# Altium integrated library TI Power Management Battery Management.IntLib: 949 symbols (part 18 of 62)
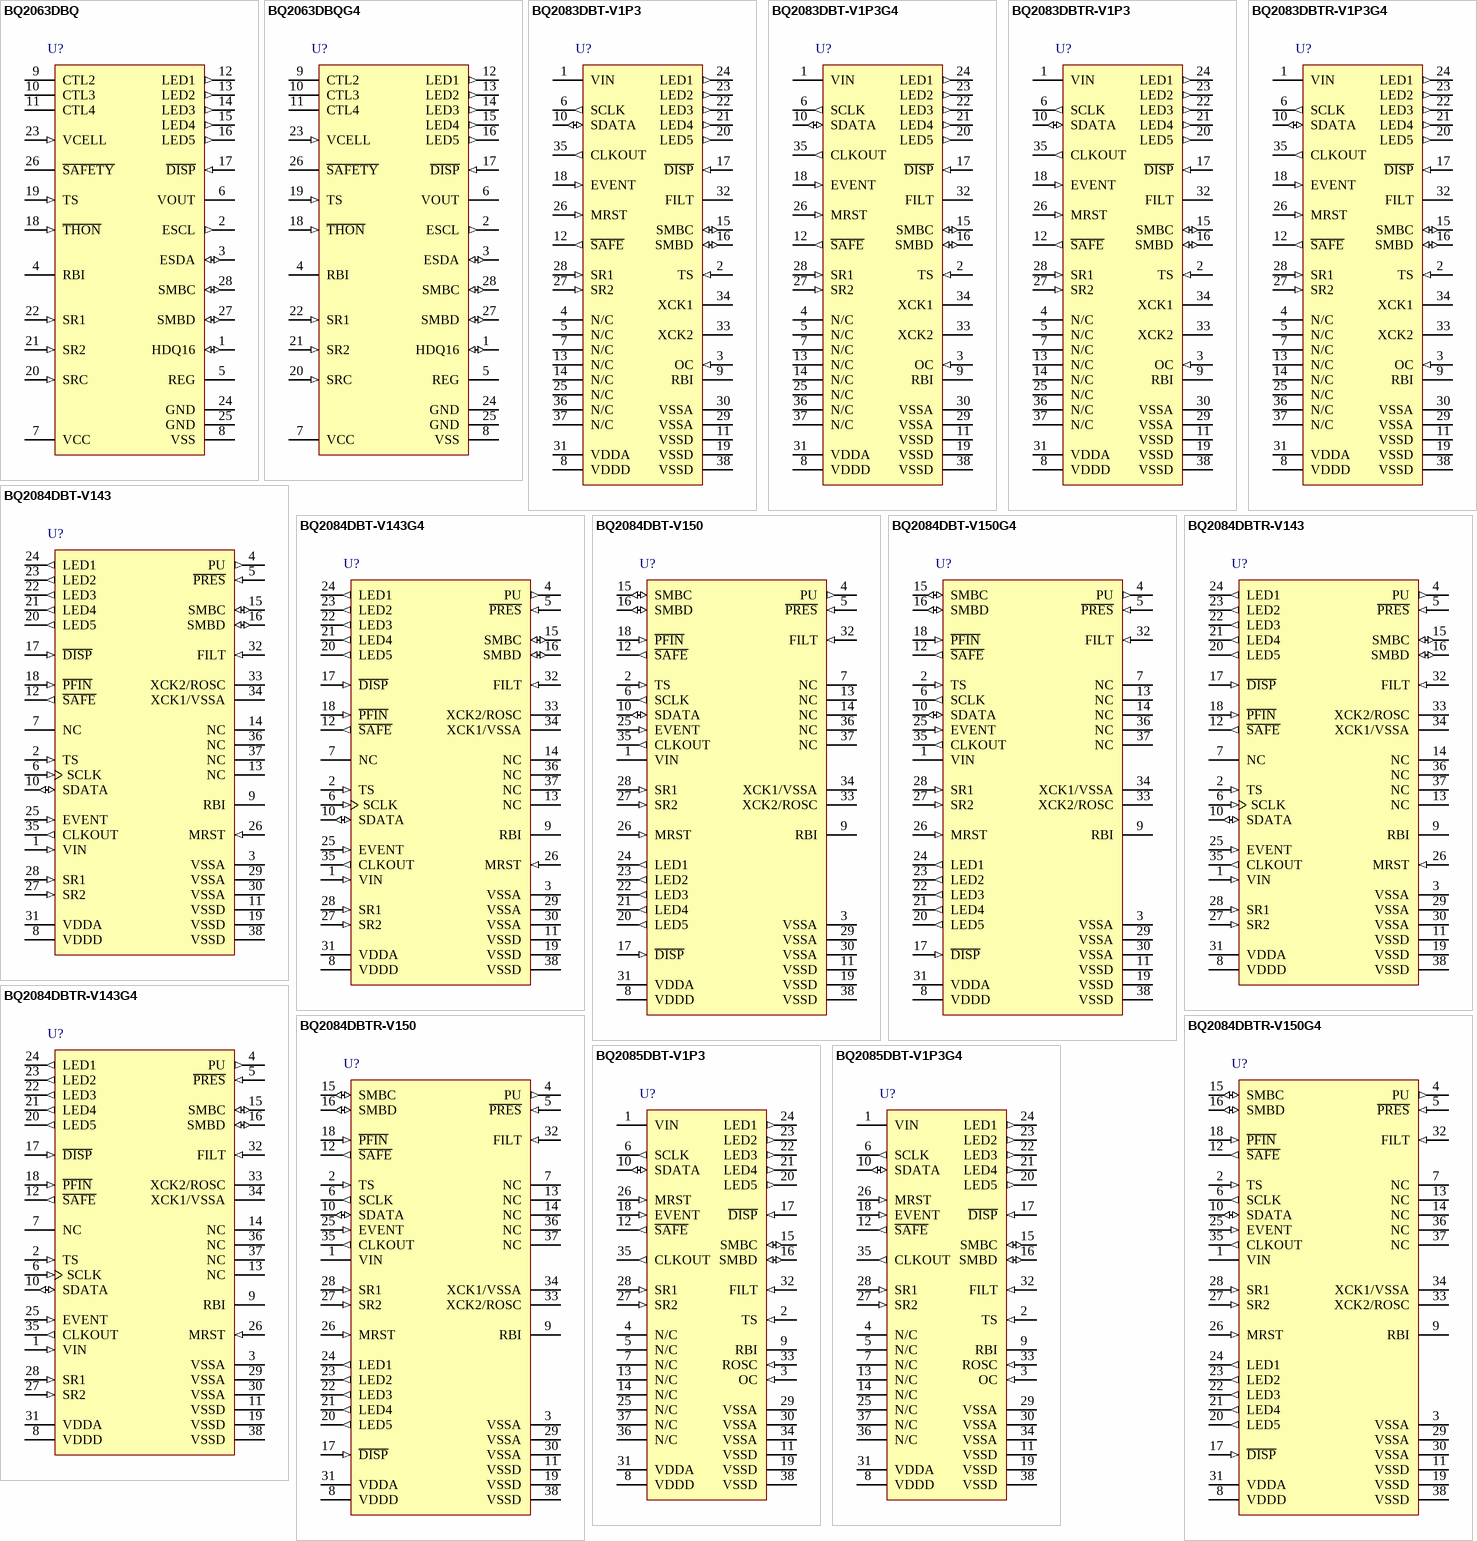
[diagram p51: symbols BQ2063DBQ to BQ2085DBT-V1P3G4]

## BQ2084DBT-V150G4
designator U?
SBS v1.1 Compliant Gas Gauge with LED Delay, -20 to 85 degC, 38-pin TSSOP (DBT), Green (RoHS & no Sb/Br); PartNumber: BQ2084DBT-V150G4; Manufacturer: Texas Instruments; Lead Acid: N; Li-Ion: Y; SubFamily: Battery Fuel Gauge; DatasheetVersion: SLUS758; PackageVersion: revI, Mar-2011; PackageReference: DBT38; PackageDescription: 38-Pin Plastic Small Outline 0.5 mm Pitch; Supplier 1: Digi-Key; Supplier Part Number 1: BQ2084DBT-V150G4-ND; Supplier 2: Newark; Supplier Part Number 2: 34P3340; Supplier 3: Mouser; Supplier Part Number 3: 595-BQ2084DBT-V150G4; Eco-Plan: Green (RoHS & no Sb/Br); Li-Polymer: Y; NiCd: N; NiMH: N; Over Voltage Protection: N; Mounting Technology: Surface Mount; Code_JEDEC: MO-153; ComponentLink1Description: Datasheet; ComponentLink1URL: http://www.ti.com/general/docs/lit/getliterature.tsp?genericPartNumber=BQ2084-V150&fileType=pdf
footprint DBT38_N (TSSOP, 38-Leads, Body 9.7x4.4mm, Pitch 0.5mm, IPC Medium Density)
footprint DBT38_L (TSSOP, 38-Leads, Body 9.7x4.4mm, Pitch 0.5mm, IPC High Density)
footprint DBT38_M (TSSOP, 38-Leads, Body 9.7x4.4mm, Pitch 0.5mm, IPC Low Density)
pins: 1 VIN (power) "Single-cell voltage input from the bq29312A", 2 TS (in) "Thermistor voltage input connection to monitor temperature", 3 VSSA (power) "Negative supply for analog circuitry", 4 PU (out) "Output to pull up the PRES pin for detection", 5 ~{PRES} (in) "Active low input to sense system insertion", 6 SCLK (out) "Communication clock to the bq29312A", 7 NC "No connection", 8 VDDD (power) "Positive supply for digital circuitry and I/O pins", 9 RBI (power) "Register backup that provides backup potential to the bq2084-V150 data registers during periods of low operating voltage. RBI accepts a storage capacitor or a battery input.", 10 SDATA (io) "Data transfer to and from bq29312A", 11 VSSD (power) "Negative supply for digital circuitry", 12 ~{SAFE} (out) "Active low output for additional level of safety protection; e.g., fuse blow.", 13 NC "No connection", 14 NC "No connection", 15 SMBC (io) "SMBus clock open-drain bidirectional pin used to clock the data transfer to and from the bq2084-V150", 16 SMBD (io) "SMBus clock open-drain bidirectional pin used to transfer address and data to and from the bq2084-V150", 17 ~{DISP} (in) "Display control for the LED drivers LED1 through LED5", 18 ~{PFIN} (in) "Active low input to detect secondary protector output status", 19 VSSD (power) "Negative supply for digital circuitry", 20 LED5 (out) "LED display segments that each may drive an external LED", 21 LED4 (out) "LED display segments that each may drive an external LED", 22 LED3 (out) "LED display segments that each may drive an external LED", 23 LED2 (out) "LED display segments that each may drive an external LED", 24 LED1 (out) "LED display segments that each may drive an external LED", 25 EVENT (in) "Input from bq29312A XALERT output", 26 MRST (in) "Master reset input that forces the device into reset when held high", 27 SR2 (in) "Connections for a small-value sense resistor to monitor the battery charge- and discharge-current flow", 28 SR1 (in) "Connections for a small-value sense resistor to monitor the battery charge- and discharge-current flow", 29 VSSA (power) "Negative supply for analog circuitry", 30 VSSA (power) "Negative supply for analog circuitry", 31 VDDA (power) "Positive supply for analog circuitry", 32 FILT (in) "Analog input connected to the external PLL filter", 33 XCK2/ROSC "32.768-kHz crystal oscillator input pin or connected to a 100-kohm, 50 ppm or better resistor if the internal oscillator is used", 34 XCK1/VSSA "32.768-kHz crystal oscillator input pin or connected to VSSA if the internal oscillator is used", 35 CLKOUT (out) "32.768-kHz output to the bq29312A", 36 NC "No connection", 37 NC "No connection", 38 VSSD (power) "Negative supply for digital circuitry"

## BQ2084DBTR-V143
designator U?
SBS v1.1 Compliant Gas Gauge for use with the BQ29312A, 38-pin TSSOP (DBT), Green (RoHS & no Sb/Br); PartNumber: BQ2084DBTR-V143; Manufacturer: Texas Instruments; Lead Acid: N; Li-Ion: Y; SubFamily: Battery Fuel Gauge; DatasheetVersion: SLUS732; PackageVersion: revI, Mar-2011; PackageReference: DBT38; PackageDescription: 38-Pin Plastic Small Outline 0.5 mm Pitch; Supplier 1: Digi-Key; Supplier Part Number 1: 296-21297-2-ND; Supplier 2: Digi-Key; Supplier Part Number 2: 296-21297-1-ND; Supplier 3: Digi-Key; Supplier Part Number 3: 296-21297-6-ND; Supplier 4: Newark; Supplier Part Number 4: 21M9447; Supplier 5: Mouser; Supplier Part Number 5: 595-BQ2084DBTR-V143; Eco-Plan: Green (RoHS & no Sb/Br); Li-Polymer: N; NiCd: N; NiMH: N; Over Voltage Protection: N; Mounting Technology: Surface Mount; Code_JEDEC: MO-153; ComponentLink1Description: Datasheet; ComponentLink1URL: http://www.ti.com/general/docs/lit/getliterature.tsp?genericPartNumber=BQ2084-V143&fileType=pdf
footprint DBT38_N (TSSOP, 38-Leads, Body 9.7x4.4mm, Pitch 0.5mm, IPC Medium Density)
footprint DBT38_L (TSSOP, 38-Leads, Body 9.7x4.4mm, Pitch 0.5mm, IPC High Density)
footprint DBT38_M (TSSOP, 38-Leads, Body 9.7x4.4mm, Pitch 0.5mm, IPC Low Density)
pins: 1 VIN (in) "Single-cell voltage input from the bq29312.", 2 TS (in) "Thermistor voltage input connection to monitor temperature.", 3 VSSA (power) "Negative supply for analog circuitry.", 4 PU (out) "Output to pull up the P\R\E\S\ pin for detection.", 5 ~{PRES} (in) "Active low input to sense system insertion.", 6 SCLK (in) "Communication clock to the bq29312.", 7 NC "No connection.", 8 VDDD (power) "Positive supply for digital circuitry and I/O pins.", 9 RBI (power) "Register backup that provides backup potential to the bq2084-V143 data registers during periods of low operating voltage. RBI accepts a storage capacitor or a battery input.", 10 SDATA (io) "Data transfer to and from bq29312.", 11 VSSD (power) "Negative supply for digital circuitry.", 12 ~{SAFE} (out) "Active low output for additional level of safety protection; e.g., fuse blow.", 13 NC "No connection.", 14 NC "No connection.", 15 SMBC (io) "SMBus clock open-drain bidirectional pin used to clock the data transfer to and from the bq2084-V143.", 16 SMBD (io) "SMBus data open-drain bidirectional pin used to transfer address and data to and from the bq2084-V143.", 17 ~{DISP} (in) "Display control for the LED drivers LED1 through LED5.", 18 ~{PFIN} (in) "Active low input to detect secondary protector output status.", 19 VSSD (power) "Negative supply for digital circuitry.", 20 LED5 (out) "LED display segments that each may drive an external LED.", 21 LED4 (out) "LED display segments that each may drive an external LED.", 22 LED3 (out) "LED display segments that each may drive an external LED.", 23 LED2 (out) "LED display segments that each may drive an external LED.", 24 LED1 (out) "LED display segments that each may drive an external LED.", 25 EVENT (in) "Input from bq29312 XALERT output.", 26 MRST (in) "Master reset input that forces the device into reset when held high.", 27 SR2 (in) "Connections for a small-value sense resistor to monitor the battery charge- and discharge-current flow.", 28 SR1 (in) "Connections for a small-value sense resistor to monitor the battery charge- and discharge-current flow.", 29 VSSA (power) "Negative supply for analog circuitry.", 30 VSSA (power) "Negative supply for analog circuitry.", 31 VDDA (power) "Positive supply for analog circuitry.", 32 FILT (in) "Analog input connected to the external PLL filter.", 33 XCK2/ROSC "32.768-kHz crystal oscillator output pin or connected to a 100-k ohm, 50 ppm or better resistor if the internal oscillator is used.", 34 XCK1/VSSA "32.768-kHz crystal oscillator input pin or connected to VSSA if the internal oscillator is used.", 35 CLKOUT (out) "32.768-kHz output to the bq29312.", 36 NC "No connection.", 37 NC "No connection.", 38 VSSD (power) "Negative supply for digital circuitry."

## BQ2084DBTR-V143G4
designator U?
SBS v1.1 Compliant Gas Gauge for use with the BQ29312A, 38-pin TSSOP (DBT), Green (RoHS & no Sb/Br); PartNumber: BQ2084DBTR-V143G4; Manufacturer: Texas Instruments; Lead Acid: N; Li-Ion: Y; SubFamily: Battery Fuel Gauge; DatasheetVersion: SLUS732; PackageVersion: revI, Mar-2011; PackageReference: DBT38; PackageDescription: 38-Pin Plastic Small Outline 0.5 mm Pitch; Supplier 1: Digi-Key; Supplier Part Number 1: BQ2084DBTR-V143G4-ND; Supplier 2: Newark; Supplier Part Number 2: 27M2178; Supplier 3: Mouser; Supplier Part Number 3: 595-BQ2084DBTRV143G4; Eco-Plan: Green (RoHS & no Sb/Br); Li-Polymer: N; NiCd: N; NiMH: N; Over Voltage Protection: N; Mounting Technology: Surface Mount; Code_JEDEC: MO-153; ComponentLink1Description: Datasheet; ComponentLink1URL: http://www.ti.com/general/docs/lit/getliterature.tsp?genericPartNumber=BQ2084-V143&fileType=pdf
footprint DBT38_N (TSSOP, 38-Leads, Body 9.7x4.4mm, Pitch 0.5mm, IPC Medium Density)
footprint DBT38_L (TSSOP, 38-Leads, Body 9.7x4.4mm, Pitch 0.5mm, IPC High Density)
footprint DBT38_M (TSSOP, 38-Leads, Body 9.7x4.4mm, Pitch 0.5mm, IPC Low Density)
pins: 1 VIN (in) "Single-cell voltage input from the bq29312.", 2 TS (in) "Thermistor voltage input connection to monitor temperature.", 3 VSSA (power) "Negative supply for analog circuitry.", 4 PU (out) "Output to pull up the P\R\E\S\ pin for detection.", 5 ~{PRES} (in) "Active low input to sense system insertion.", 6 SCLK (in) "Communication clock to the bq29312.", 7 NC "No connection.", 8 VDDD (power) "Positive supply for digital circuitry and I/O pins.", 9 RBI (power) "Register backup that provides backup potential to the bq2084-V143 data registers during periods of low operating voltage. RBI accepts a storage capacitor or a battery input.", 10 SDATA (io) "Data transfer to and from bq29312.", 11 VSSD (power) "Negative supply for digital circuitry.", 12 ~{SAFE} (out) "Active low output for additional level of safety protection; e.g., fuse blow.", 13 NC "No connection.", 14 NC "No connection.", 15 SMBC (io) "SMBus clock open-drain bidirectional pin used to clock the data transfer to and from the bq2084-V143.", 16 SMBD (io) "SMBus data open-drain bidirectional pin used to transfer address and data to and from the bq2084-V143.", 17 ~{DISP} (in) "Display control for the LED drivers LED1 through LED5.", 18 ~{PFIN} (in) "Active low input to detect secondary protector output status.", 19 VSSD (power) "Negative supply for digital circuitry.", 20 LED5 (out) "LED display segments that each may drive an external LED.", 21 LED4 (out) "LED display segments that each may drive an external LED.", 22 LED3 (out) "LED display segments that each may drive an external LED.", 23 LED2 (out) "LED display segments that each may drive an external LED.", 24 LED1 (out) "LED display segments that each may drive an external LED.", 25 EVENT (in) "Input from bq29312 XALERT output.", 26 MRST (in) "Master reset input that forces the device into reset when held high.", 27 SR2 (in) "Connections for a small-value sense resistor to monitor the battery charge- and discharge-current flow.", 28 SR1 (in) "Connections for a small-value sense resistor to monitor the battery charge- and discharge-current flow.", 29 VSSA (power) "Negative supply for analog circuitry.", 30 VSSA (power) "Negative supply for analog circuitry.", 31 VDDA (power) "Positive supply for analog circuitry.", 32 FILT (in) "Analog input connected to the external PLL filter.", 33 XCK2/ROSC "32.768-kHz crystal oscillator output pin or connected to a 100-k ohm, 50 ppm or better resistor if the internal oscillator is used.", 34 XCK1/VSSA "32.768-kHz crystal oscillator input pin or connected to VSSA if the internal oscillator is used.", 35 CLKOUT (out) "32.768-kHz output to the bq29312.", 36 NC "No connection.", 37 NC "No connection.", 38 VSSD (power) "Negative supply for digital circuitry."

## BQ2084DBTR-V150
designator U?
SBS v1.1 Compliant Gas Gauge with LED Delay, -20 to 85 degC, 38-pin TSSOP (DBT), Green (RoHS & no Sb/Br); PartNumber: BQ2084DBTR-V150; Manufacturer: Texas Instruments; Lead Acid: N; Li-Ion: Y; SubFamily: Battery Fuel Gauge; DatasheetVersion: SLUS758; PackageVersion: revI, Mar-2011; PackageReference: DBT38; PackageDescription: 38-Pin Plastic Small Outline 0.5 mm Pitch; Supplier 1: Digi-Key; Supplier Part Number 1: BQ2084DBTR-V150-ND; Supplier 2: Newark; Supplier Part Number 2: 50M8821; Supplier 3: Mouser; Supplier Part Number 3: 595-BQ2084DBTR-V150; Eco-Plan: Green (RoHS & no Sb/Br); Li-Polymer: Y; NiCd: N; NiMH: N; Over Voltage Protection: N; Mounting Technology: Surface Mount; Code_JEDEC: MO-153; ComponentLink1Description: Datasheet; ComponentLink1URL: http://www.ti.com/general/docs/lit/getliterature.tsp?genericPartNumber=BQ2084-V150&fileType=pdf
footprint DBT38_N (TSSOP, 38-Leads, Body 9.7x4.4mm, Pitch 0.5mm, IPC Medium Density)
footprint DBT38_L (TSSOP, 38-Leads, Body 9.7x4.4mm, Pitch 0.5mm, IPC High Density)
footprint DBT38_M (TSSOP, 38-Leads, Body 9.7x4.4mm, Pitch 0.5mm, IPC Low Density)
pins: 1 VIN (power) "Single-cell voltage input from the bq29312A", 2 TS (in) "Thermistor voltage input connection to monitor temperature", 3 VSSA (power) "Negative supply for analog circuitry", 4 PU (out) "Output to pull up the PRES pin for detection", 5 ~{PRES} (in) "Active low input to sense system insertion", 6 SCLK (out) "Communication clock to the bq29312A", 7 NC "No connection", 8 VDDD (power) "Positive supply for digital circuitry and I/O pins", 9 RBI (power) "Register backup that provides backup potential to the bq2084-V150 data registers during periods of low operating voltage. RBI accepts a storage capacitor or a battery input.", 10 SDATA (io) "Data transfer to and from bq29312A", 11 VSSD (power) "Negative supply for digital circuitry", 12 ~{SAFE} (out) "Active low output for additional level of safety protection; e.g., fuse blow.", 13 NC "No connection", 14 NC "No connection", 15 SMBC (io) "SMBus clock open-drain bidirectional pin used to clock the data transfer to and from the bq2084-V150", 16 SMBD (io) "SMBus clock open-drain bidirectional pin used to transfer address and data to and from the bq2084-V150", 17 ~{DISP} (in) "Display control for the LED drivers LED1 through LED5", 18 ~{PFIN} (in) "Active low input to detect secondary protector output status", 19 VSSD (power) "Negative supply for digital circuitry", 20 LED5 (out) "LED display segments that each may drive an external LED", 21 LED4 (out) "LED display segments that each may drive an external LED", 22 LED3 (out) "LED display segments that each may drive an external LED", 23 LED2 (out) "LED display segments that each may drive an external LED", 24 LED1 (out) "LED display segments that each may drive an external LED", 25 EVENT (in) "Input from bq29312A XALERT output", 26 MRST (in) "Master reset input that forces the device into reset when held high", 27 SR2 (in) "Connections for a small-value sense resistor to monitor the battery charge- and discharge-current flow", 28 SR1 (in) "Connections for a small-value sense resistor to monitor the battery charge- and discharge-current flow", 29 VSSA (power) "Negative supply for analog circuitry", 30 VSSA (power) "Negative supply for analog circuitry", 31 VDDA (power) "Positive supply for analog circuitry", 32 FILT (in) "Analog input connected to the external PLL filter", 33 XCK2/ROSC "32.768-kHz crystal oscillator input pin or connected to a 100-kohm, 50 ppm or better resistor if the internal oscillator is used", 34 XCK1/VSSA "32.768-kHz crystal oscillator input pin or connected to VSSA if the internal oscillator is used", 35 CLKOUT (out) "32.768-kHz output to the bq29312A", 36 NC "No connection", 37 NC "No connection", 38 VSSD (power) "Negative supply for digital circuitry"

## BQ2084DBTR-V150G4
designator U?
SBS v1.1 Compliant Gas Gauge with LED Delay, -20 to 85 degC, 38-pin TSSOP (DBT), Green (RoHS & no Sb/Br); PartNumber: BQ2084DBTR-V150G4; Manufacturer: Texas Instruments; Lead Acid: N; Li-Ion: Y; SubFamily: Battery Fuel Gauge; DatasheetVersion: SLUS758; PackageVersion: revI, Mar-2011; PackageReference: DBT38; PackageDescription: 38-Pin Plastic Small Outline 0.5 mm Pitch; Supplier 1: Digi-Key; Supplier Part Number 1: BQ2084DBTR-V150G4-ND; Supplier 2: Newark; Supplier Part Number 2: 34P3342; Supplier 3: Mouser; Supplier Part Number 3: 595-BQ2084DBTRV150G4; Eco-Plan: Green (RoHS & no Sb/Br); Li-Polymer: Y; NiCd: N; NiMH: N; Over Voltage Protection: N; Mounting Technology: Surface Mount; Code_JEDEC: MO-153; ComponentLink1Description: Datasheet; ComponentLink1URL: http://www.ti.com/general/docs/lit/getliterature.tsp?genericPartNumber=BQ2084-V150&fileType=pdf
footprint DBT38_N (TSSOP, 38-Leads, Body 9.7x4.4mm, Pitch 0.5mm, IPC Medium Density)
footprint DBT38_L (TSSOP, 38-Leads, Body 9.7x4.4mm, Pitch 0.5mm, IPC High Density)
footprint DBT38_M (TSSOP, 38-Leads, Body 9.7x4.4mm, Pitch 0.5mm, IPC Low Density)
pins: 1 VIN (power) "Single-cell voltage input from the bq29312A", 2 TS (in) "Thermistor voltage input connection to monitor temperature", 3 VSSA (power) "Negative supply for analog circuitry", 4 PU (out) "Output to pull up the PRES pin for detection", 5 ~{PRES} (in) "Active low input to sense system insertion", 6 SCLK (out) "Communication clock to the bq29312A", 7 NC "No connection", 8 VDDD (power) "Positive supply for digital circuitry and I/O pins", 9 RBI (power) "Register backup that provides backup potential to the bq2084-V150 data registers during periods of low operating voltage. RBI accepts a storage capacitor or a battery input.", 10 SDATA (io) "Data transfer to and from bq29312A", 11 VSSD (power) "Negative supply for digital circuitry", 12 ~{SAFE} (out) "Active low output for additional level of safety protection; e.g., fuse blow.", 13 NC "No connection", 14 NC "No connection", 15 SMBC (io) "SMBus clock open-drain bidirectional pin used to clock the data transfer to and from the bq2084-V150", 16 SMBD (io) "SMBus clock open-drain bidirectional pin used to transfer address and data to and from the bq2084-V150", 17 ~{DISP} (in) "Display control for the LED drivers LED1 through LED5", 18 ~{PFIN} (in) "Active low input to detect secondary protector output status", 19 VSSD (power) "Negative supply for digital circuitry", 20 LED5 (out) "LED display segments that each may drive an external LED", 21 LED4 (out) "LED display segments that each may drive an external LED", 22 LED3 (out) "LED display segments that each may drive an external LED", 23 LED2 (out) "LED display segments that each may drive an external LED", 24 LED1 (out) "LED display segments that each may drive an external LED", 25 EVENT (in) "Input from bq29312A XALERT output", 26 MRST (in) "Master reset input that forces the device into reset when held high", 27 SR2 (in) "Connections for a small-value sense resistor to monitor the battery charge- and discharge-current flow", 28 SR1 (in) "Connections for a small-value sense resistor to monitor the battery charge- and discharge-current flow", 29 VSSA (power) "Negative supply for analog circuitry", 30 VSSA (power) "Negative supply for analog circuitry", 31 VDDA (power) "Positive supply for analog circuitry", 32 FILT (in) "Analog input connected to the external PLL filter", 33 XCK2/ROSC "32.768-kHz crystal oscillator input pin or connected to a 100-kohm, 50 ppm or better resistor if the internal oscillator is used", 34 XCK1/VSSA "32.768-kHz crystal oscillator input pin or connected to VSSA if the internal oscillator is used", 35 CLKOUT (out) "32.768-kHz output to the bq29312A", 36 NC "No connection", 37 NC "No connection", 38 VSSD (power) "Negative supply for digital circuitry"

## BQ2085DBT-V1P3
designator U?
SBS-Compliant Gas Gauge IC for Use with the bq29311, -20 to 85 degC, 38-pin TSSOP (DBT), Green (RoHS & no Sb/Br); PartNumber: BQ2085DBT-V1P3; Manufacturer: Texas Instruments; Lead Acid: N; SubFamily: Battery Fuel Gauge; DatasheetVersion: SLUS598; PackageVersion: revI, Mar-2011; PackageReference: DBT38; PackageDescription: 38-Pin Plastic Small Outline 0.5 mm Pitch; Supplier 1: Digi-Key; Supplier Part Number 1: 296-17238-ND; Supplier 2: Newark; Supplier Part Number 2: 10J9014; Supplier 3: Mouser; Supplier Part Number 3: 595-BQ2085DBT-V1P3; Eco-Plan: Green (RoHS & no Sb/Br); Li-Ion: N; Li-Polymer: N; NiCd: N; NiMH: N; Over Voltage Protection: N; Mounting Technology: Surface Mount; Code_JEDEC: MO-153; ComponentLink1Description: Datasheet; ComponentLink1URL: http://www.ti.com/general/docs/lit/getliterature.tsp?genericPartNumber=BQ2085-V1P3&fileType=pdf
footprint DBT38_N (TSSOP, 38-Leads, Body 9.7x4.4mm, Pitch 0.5mm, IPC Medium Density)
footprint DBT38_L (TSSOP, 38-Leads, Body 9.7x4.4mm, Pitch 0.5mm, IPC High Density)
footprint DBT38_M (TSSOP, 38-Leads, Body 9.7x4.4mm, Pitch 0.5mm, IPC Low Density)
pins: 1 VIN (power) "Single-cell voltage input from the bq29311", 2 TS (in) "Thermistor voltage input connection to monitor temperature", 3 OC (in) "Analog input for auto ADC offset compensation; should be connected to VSSA", 4 N/C "No connection", 5 N/C "No connection", 6 SCLK (out) "Communication clock to the bq29311", 7 N/C "No connection", 8 VDDD (power) "Positive supply for digital circuitry and I/O pins", 9 RBI (power) "Register backup that provides backup potential to the bq2085-V1P3 data registers during periods of low operating voltage. RBI accepts a storage capacitor or a battery input.", 10 SDATA (io) "Data transfer to and from bq29311", 11 VSSD (power) "Negative supply for digital circuitry", 12 ~{SAFE} (out) "Output for additional level of safety protection; e.g., fuse blow.", 13 N/C "No connection", 14 N/C "No connection", 15 SMBC (io) "SMBus clock open-drain bidirectional pin used to clock the data transfer to and from the bq2085-V1P3", 16 SMBD (io) "SMBus data open-drain bidirectional pin used to transfer address and data to and from the bq2085-V1P3", 17 ~{DISP} (in) "Display control for the LED drivers LED1 through LED5", 18 EVENT (in) "Input from bq29311 XALERT output", 19 VSSD (power) "Negative supply for digital circuitry", 20 LED5 (out) "LED display segments that each may drive an external LED", 21 LED4 (out) "LED display segments that each may drive an external LED", 22 LED3 (out) "LED display segments that each may drive an external LED", 23 LED2 (out) "LED display segments that each may drive an external LED", 24 LED1 (out) "LED display segments that each may drive an external LED", 25 N/C "No connection", 26 MRST (in) "Master reset input that forces the device into reset when held high", 27 SR2 (in) "Connections for a small-value sense resistor to monitor the battery charge- and discharge-current flow", 28 SR1 (in) "Connections for a small-value sense resistor to monitor the battery charge- and discharge-current flow", 29 VSSA (power) "Negative supply for output circuitry", 30 VSSA (power) "Negative supply for analog circuitry", 31 VDDA (power) "Positive supply for analog circuitry", 32 FILT (in) "Analog input connected to the external PLL filter", 33 ROSC (in) "Internal time base bias input", 34 VSSA (power) "Negative supply for analog circuitry", 35 CLKOUT (out) "32.768-kHz output to the bq29311", 36 N/C "No connection", 37 N/C "No connection", 38 VSSD (power) "Negative supply for digital circuitry"

## BQ2085DBT-V1P3G4
designator U?
SBS-Compliant Gas Gauge IC for Use with the bq29311, -20 to 85 degC, 38-pin TSSOP (DBT), Green (RoHS & no Sb/Br); PartNumber: BQ2085DBT-V1P3G4; Manufacturer: Texas Instruments; Lead Acid: N; SubFamily: Battery Fuel Gauge; DatasheetVersion: SLUS598; PackageVersion: revI, Mar-2011; PackageReference: DBT38; PackageDescription: 38-Pin Plastic Small Outline 0.5 mm Pitch; Supplier 1: Digi-Key; Supplier Part Number 1: BQ2085DBT-V1P3G4-ND; Supplier 2: Newark; Supplier Part Number 2: 60K8843; Supplier 3: Mouser; Supplier Part Number 3: 595-BQ2085DBT-V1P3G4; Eco-Plan: Green (RoHS & no Sb/Br); Li-Ion: N; Li-Polymer: N; NiCd: N; NiMH: N; Over Voltage Protection: N; Mounting Technology: Surface Mount; Code_JEDEC: MO-153; ComponentLink1Description: Datasheet; ComponentLink1URL: http://www.ti.com/general/docs/lit/getliterature.tsp?genericPartNumber=BQ2085-V1P3&fileType=pdf
footprint DBT38_N (TSSOP, 38-Leads, Body 9.7x4.4mm, Pitch 0.5mm, IPC Medium Density)
footprint DBT38_L (TSSOP, 38-Leads, Body 9.7x4.4mm, Pitch 0.5mm, IPC High Density)
footprint DBT38_M (TSSOP, 38-Leads, Body 9.7x4.4mm, Pitch 0.5mm, IPC Low Density)
pins: 1 VIN (power) "Single-cell voltage input from the bq29311", 2 TS (in) "Thermistor voltage input connection to monitor temperature", 3 OC (in) "Analog input for auto ADC offset compensation; should be connected to VSSA", 4 N/C "No connection", 5 N/C "No connection", 6 SCLK (out) "Communication clock to the bq29311", 7 N/C "No connection", 8 VDDD (power) "Positive supply for digital circuitry and I/O pins", 9 RBI (power) "Register backup that provides backup potential to the bq2085-V1P3 data registers during periods of low operating voltage. RBI accepts a storage capacitor or a battery input.", 10 SDATA (io) "Data transfer to and from bq29311", 11 VSSD (power) "Negative supply for digital circuitry", 12 ~{SAFE} (out) "Output for additional level of safety protection; e.g., fuse blow.", 13 N/C "No connection", 14 N/C "No connection", 15 SMBC (io) "SMBus clock open-drain bidirectional pin used to clock the data transfer to and from the bq2085-V1P3", 16 SMBD (io) "SMBus data open-drain bidirectional pin used to transfer address and data to and from the bq2085-V1P3", 17 ~{DISP} (in) "Display control for the LED drivers LED1 through LED5", 18 EVENT (in) "Input from bq29311 XALERT output", 19 VSSD (power) "Negative supply for digital circuitry", 20 LED5 (out) "LED display segments that each may drive an external LED", 21 LED4 (out) "LED display segments that each may drive an external LED", 22 LED3 (out) "LED display segments that each may drive an external LED", 23 LED2 (out) "LED display segments that each may drive an external LED", 24 LED1 (out) "LED display segments that each may drive an external LED", 25 N/C "No connection", 26 MRST (in) "Master reset input that forces the device into reset when held high", 27 SR2 (in) "Connections for a small-value sense resistor to monitor the battery charge- and discharge-current flow", 28 SR1 (in) "Connections for a small-value sense resistor to monitor the battery charge- and discharge-current flow", 29 VSSA (power) "Negative supply for output circuitry", 30 VSSA (power) "Negative supply for analog circuitry", 31 VDDA (power) "Positive supply for analog circuitry", 32 FILT (in) "Analog input connected to the external PLL filter", 33 ROSC (in) "Internal time base bias input", 34 VSSA (power) "Negative supply for analog circuitry", 35 CLKOUT (out) "32.768-kHz output to the bq29311", 36 N/C "No connection", 37 N/C "No connection", 38 VSSD (power) "Negative supply for digital circuitry"

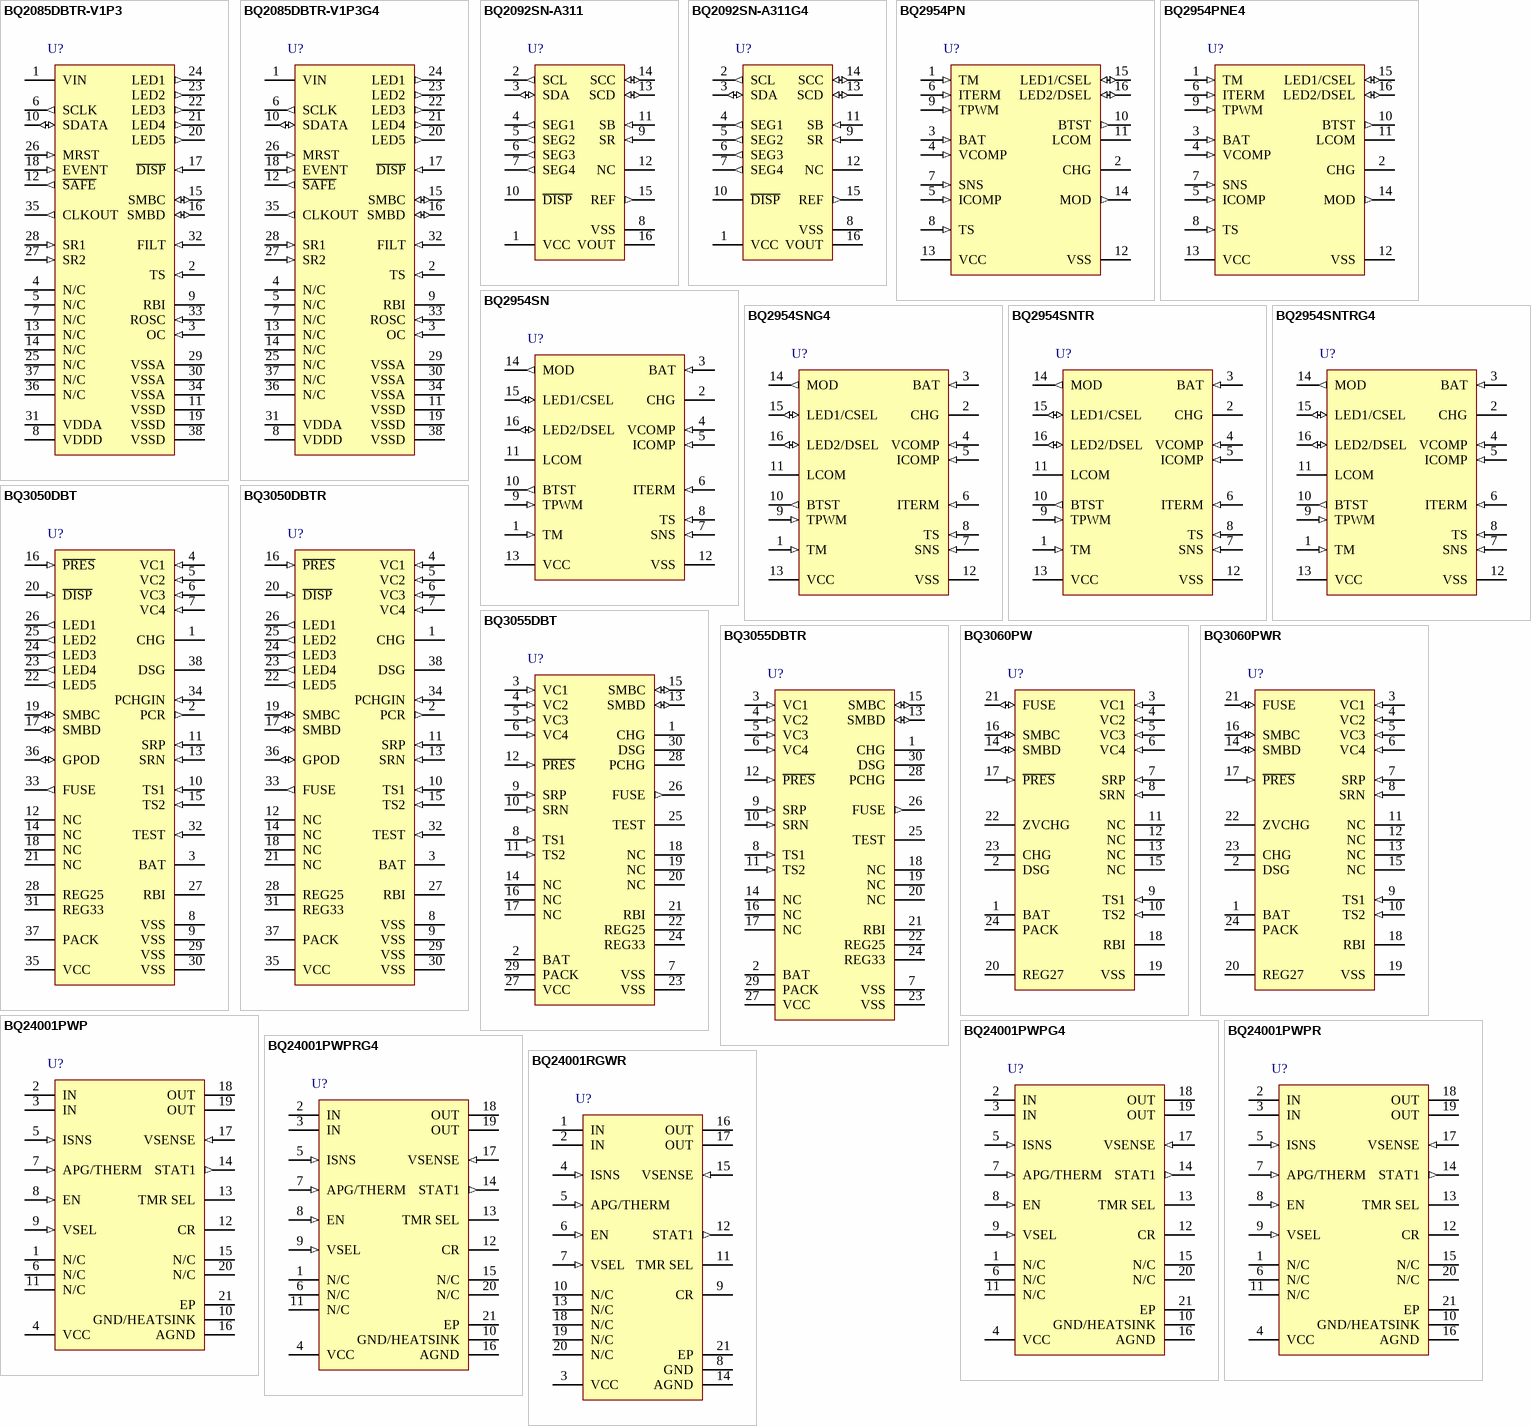
[diagram p10: symbols BQ2085DBTR-V1P3 to BQ24001RGWR]

## BQ2085DBTR-V1P3
designator U?
SBS-Compliant Gas Gauge IC for Use with the bq29311, -20 to 85 degC, 38-pin TSSOP (DBT), Green (RoHS & no Sb/Br); PartNumber: BQ2085DBTR-V1P3; Manufacturer: Texas Instruments; Lead Acid: N; SubFamily: Battery Fuel Gauge; DatasheetVersion: SLUS598; PackageVersion: revI, Mar-2011; PackageReference: DBT38; PackageDescription: 38-Pin Plastic Small Outline 0.5 mm Pitch; Supplier 1: Digi-Key; Supplier Part Number 1: BQ2085DBTR-V1P3-ND; Supplier 2: Newark; Supplier Part Number 2: 10J9015; Supplier 3: Mouser; Supplier Part Number 3: 595-BQ2085DBTR-V1P3; Eco-Plan: Green (RoHS & no Sb/Br); Li-Ion: N; Li-Polymer: N; NiCd: N; NiMH: N; Over Voltage Protection: N; Mounting Technology: Surface Mount; Code_JEDEC: MO-153; ComponentLink1Description: Datasheet; ComponentLink1URL: http://www.ti.com/general/docs/lit/getliterature.tsp?genericPartNumber=BQ2085-V1P3&fileType=pdf
footprint DBT38_N (TSSOP, 38-Leads, Body 9.7x4.4mm, Pitch 0.5mm, IPC Medium Density)
footprint DBT38_L (TSSOP, 38-Leads, Body 9.7x4.4mm, Pitch 0.5mm, IPC High Density)
footprint DBT38_M (TSSOP, 38-Leads, Body 9.7x4.4mm, Pitch 0.5mm, IPC Low Density)
pins: 1 VIN (power) "Single-cell voltage input from the bq29311", 2 TS (in) "Thermistor voltage input connection to monitor temperature", 3 OC (in) "Analog input for auto ADC offset compensation; should be connected to VSSA", 4 N/C "No connection", 5 N/C "No connection", 6 SCLK (out) "Communication clock to the bq29311", 7 N/C "No connection", 8 VDDD (power) "Positive supply for digital circuitry and I/O pins", 9 RBI (power) "Register backup that provides backup potential to the bq2085-V1P3 data registers during periods of low operating voltage. RBI accepts a storage capacitor or a battery input.", 10 SDATA (io) "Data transfer to and from bq29311", 11 VSSD (power) "Negative supply for digital circuitry", 12 ~{SAFE} (out) "Output for additional level of safety protection; e.g., fuse blow.", 13 N/C "No connection", 14 N/C "No connection", 15 SMBC (io) "SMBus clock open-drain bidirectional pin used to clock the data transfer to and from the bq2085-V1P3", 16 SMBD (io) "SMBus data open-drain bidirectional pin used to transfer address and data to and from the bq2085-V1P3", 17 ~{DISP} (in) "Display control for the LED drivers LED1 through LED5", 18 EVENT (in) "Input from bq29311 XALERT output", 19 VSSD (power) "Negative supply for digital circuitry", 20 LED5 (out) "LED display segments that each may drive an external LED", 21 LED4 (out) "LED display segments that each may drive an external LED", 22 LED3 (out) "LED display segments that each may drive an external LED", 23 LED2 (out) "LED display segments that each may drive an external LED", 24 LED1 (out) "LED display segments that each may drive an external LED", 25 N/C "No connection", 26 MRST (in) "Master reset input that forces the device into reset when held high", 27 SR2 (in) "Connections for a small-value sense resistor to monitor the battery charge- and discharge-current flow", 28 SR1 (in) "Connections for a small-value sense resistor to monitor the battery charge- and discharge-current flow", 29 VSSA (power) "Negative supply for output circuitry", 30 VSSA (power) "Negative supply for analog circuitry", 31 VDDA (power) "Positive supply for analog circuitry", 32 FILT (in) "Analog input connected to the external PLL filter", 33 ROSC (in) "Internal time base bias input", 34 VSSA (power) "Negative supply for analog circuitry", 35 CLKOUT (out) "32.768-kHz output to the bq29311", 36 N/C "No connection", 37 N/C "No connection", 38 VSSD (power) "Negative supply for digital circuitry"

## BQ2085DBTR-V1P3G4
designator U?
SBS-Compliant Gas Gauge IC for Use with the bq29311, -20 to 85 degC, 38-pin TSSOP (DBT), Green (RoHS & no Sb/Br); PartNumber: BQ2085DBTR-V1P3G4; Manufacturer: Texas Instruments; Lead Acid: N; SubFamily: Battery Fuel Gauge; DatasheetVersion: SLUS598; PackageVersion: revI, Mar-2011; PackageReference: DBT38; PackageDescription: 38-Pin Plastic Small Outline 0.5 mm Pitch; Supplier 1: Digi-Key; Supplier Part Number 1: BQ2085DBTR-V1P3G4-ND; Supplier 2: Newark; Supplier Part Number 2: 58K5579; Supplier 3: Mouser; Supplier Part Number 3: 595-BQ2085DBTR1P3G4; Eco-Plan: Green (RoHS & no Sb/Br); Li-Ion: N; Li-Polymer: N; NiCd: N; NiMH: N; Over Voltage Protection: N; Mounting Technology: Surface Mount; Code_JEDEC: MO-153; ComponentLink1Description: Datasheet; ComponentLink1URL: http://www.ti.com/general/docs/lit/getliterature.tsp?genericPartNumber=BQ2085-V1P3&fileType=pdf
footprint DBT38_N (TSSOP, 38-Leads, Body 9.7x4.4mm, Pitch 0.5mm, IPC Medium Density)
footprint DBT38_L (TSSOP, 38-Leads, Body 9.7x4.4mm, Pitch 0.5mm, IPC High Density)
footprint DBT38_M (TSSOP, 38-Leads, Body 9.7x4.4mm, Pitch 0.5mm, IPC Low Density)
pins: 1 VIN (power) "Single-cell voltage input from the bq29311", 2 TS (in) "Thermistor voltage input connection to monitor temperature", 3 OC (in) "Analog input for auto ADC offset compensation; should be connected to VSSA", 4 N/C "No connection", 5 N/C "No connection", 6 SCLK (out) "Communication clock to the bq29311", 7 N/C "No connection", 8 VDDD (power) "Positive supply for digital circuitry and I/O pins", 9 RBI (power) "Register backup that provides backup potential to the bq2085-V1P3 data registers during periods of low operating voltage. RBI accepts a storage capacitor or a battery input.", 10 SDATA (io) "Data transfer to and from bq29311", 11 VSSD (power) "Negative supply for digital circuitry", 12 ~{SAFE} (out) "Output for additional level of safety protection; e.g., fuse blow.", 13 N/C "No connection", 14 N/C "No connection", 15 SMBC (io) "SMBus clock open-drain bidirectional pin used to clock the data transfer to and from the bq2085-V1P3", 16 SMBD (io) "SMBus data open-drain bidirectional pin used to transfer address and data to and from the bq2085-V1P3", 17 ~{DISP} (in) "Display control for the LED drivers LED1 through LED5", 18 EVENT (in) "Input from bq29311 XALERT output", 19 VSSD (power) "Negative supply for digital circuitry", 20 LED5 (out) "LED display segments that each may drive an external LED", 21 LED4 (out) "LED display segments that each may drive an external LED", 22 LED3 (out) "LED display segments that each may drive an external LED", 23 LED2 (out) "LED display segments that each may drive an external LED", 24 LED1 (out) "LED display segments that each may drive an external LED", 25 N/C "No connection", 26 MRST (in) "Master reset input that forces the device into reset when held high", 27 SR2 (in) "Connections for a small-value sense resistor to monitor the battery charge- and discharge-current flow", 28 SR1 (in) "Connections for a small-value sense resistor to monitor the battery charge- and discharge-current flow", 29 VSSA (power) "Negative supply for output circuitry", 30 VSSA (power) "Negative supply for analog circuitry", 31 VDDA (power) "Positive supply for analog circuitry", 32 FILT (in) "Analog input connected to the external PLL filter", 33 ROSC (in) "Internal time base bias input", 34 VSSA (power) "Negative supply for analog circuitry", 35 CLKOUT (out) "32.768-kHz output to the bq29311", 36 N/C "No connection", 37 N/C "No connection", 38 VSSD (power) "Negative supply for digital circuitry"

## BQ2092SN-A311
designator U?
Multi-Chemistry SBS 0.95 Compliant Gas Gauge with 4 LED Drivers, 0 to 70 degC, 16-pin SOIC (D), Green (RoHS & no Sb/Br); PartNumber: BQ2092SN-A311; Manufacturer: Texas Instruments; Lead Acid: Y; Li-Polymer: N; SubFamily: Battery Fuel Gauge; PackageVersion: revM, Jun-2011; PackageReference: D16; PackageDescription: 16-Pin Plastic Small Outline Integrated Circuit, 9.9 x 3.9 mm, Pitch 1.27 mm Pitch; Supplier 1: Digi-Key; Supplier Part Number 1: BQ2092SN-A311-ND; Supplier 2: Newark; Supplier Part Number 2: 74C7616; Supplier 3: Mouser; Supplier Part Number 3: 595-BQ2092SN-A311; Eco-Plan: Green (RoHS & no Sb/Br); Li-Ion: Y; NiCd: Y; NiMH: Y; Over Voltage Protection: N; Mounting Technology: Surface Mount; Code_JEDEC: MS-012AC; ComponentLink1Description: Datasheet; ComponentLink1URL: http://www.ti.com/general/docs/lit/getliterature.tsp?genericPartNumber=BQ2092&fileType=pdf
footprint D16_N (SOIC, 16-Leads, Body 9.9x3.9mm, Pitch 1.27mm, IPC Medium Density)
footprint D16_L (SOIC, 16-Leads, Body 9.9x3.9mm, Pitch 1.27mm, IPC High Density)
footprint D16_M (SOIC, 16-Leads, Body 9.9x3.9mm, Pitch 1.27mm, IPC Low Density)
pins: 1 VCC (power) "Supply voltage input", 2 SCL (out) "This output is used to clock the data transfer between the bq2092 and the external nonvolatile configuration memory.", 3 SDA (io) "This bi-directional pin is used to transfer address and data to and from the bq2092 and the external configuration memory.", 4 SEG1 (out) "Each output may activate an external LED to sink the current sourced from VCC.", 5 SEG2 (out) "Each output may activate an external LED to sink the current sourced from VCC.", 6 SEG3 (out) "Each output may activate an external LED to sink the current sourced from VCC.", 7 SEG4 (out) "Each output may activate an external LED to sink the current sourced from VCC.", 8 VSS (power) "Ground", 9 SR (in) "The voltage drop (VSR) across pins SR and VSS is monitored and integrated over time to interpret charge and discharge activity.The SR input is connected to the sense resistor and the negative terminal of the battery. VSR < (See Datasheet)", 10 ~{DISP} "D\I\S\P\ high disables the LED display.D\I\S\P\ floating allows the LED display to be active during charge if the rate is greater than 100mA.D\I\S\P\ low activates the display for 4 seconds.", 11 SB (in) "This input monitors the cell pack voltage as a single-cell potential through a highimpedance resistor divider network. The cell pack voltage is reported in the SBD register function Voltage (0x09) and is compared to (See Datasheet)", 12 NC "No connect", 13 SCD (io) "This open-drain bidirectional pin is used to transfer address and data to and from the bq2092.", 14 SCC (io) "This open-drain bidirectional pin is used to clock the data transfer to and from the bq2092.", 15 REF (out) "REF provides a reference output for an optional micro-regulator.", 16 VOUT (power) "This output supplies power to the external EEPROM configuration memory."

## BQ2092SN-A311G4
designator U?
Multi-Chemistry SBS 0.95 Compliant Gas Gauge with 4 LED Drivers, 0 to 70 degC, 16-pin SOIC (D), Green (RoHS & no Sb/Br); PartNumber: BQ2092SN-A311G4; Manufacturer: Texas Instruments; Lead Acid: Y; Li-Polymer: N; SubFamily: Battery Fuel Gauge; PackageVersion: revM, Jun-2011; PackageReference: D16; PackageDescription: 16-Pin Plastic Small Outline Integrated Circuit, 9.9 x 3.9 mm, Pitch 1.27 mm Pitch; Supplier 1: Digi-Key; Supplier Part Number 1: BQ2092SN-A311G4-ND; Supplier 2: Newark; Supplier Part Number 2: 34M2480; Supplier 3: Mouser; Supplier Part Number 3: 595-BQ2092SN-A311G4; Eco-Plan: Green (RoHS & no Sb/Br); Li-Ion: Y; NiCd: Y; NiMH: Y; Over Voltage Protection: N; Mounting Technology: Surface Mount; Code_JEDEC: MS-012AC; ComponentLink1Description: Datasheet; ComponentLink1URL: http://www.ti.com/general/docs/lit/getliterature.tsp?genericPartNumber=BQ2092&fileType=pdf
footprint D16_N (SOIC, 16-Leads, Body 9.9x3.9mm, Pitch 1.27mm, IPC Medium Density)
footprint D16_L (SOIC, 16-Leads, Body 9.9x3.9mm, Pitch 1.27mm, IPC High Density)
footprint D16_M (SOIC, 16-Leads, Body 9.9x3.9mm, Pitch 1.27mm, IPC Low Density)
pins: 1 VCC (power) "Supply voltage input", 2 SCL (out) "This output is used to clock the data transfer between the bq2092 and the external nonvolatile configuration memory.", 3 SDA (io) "This bi-directional pin is used to transfer address and data to and from the bq2092 and the external configuration memory.", 4 SEG1 (out) "Each output may activate an external LED to sink the current sourced from VCC.", 5 SEG2 (out) "Each output may activate an external LED to sink the current sourced from VCC.", 6 SEG3 (out) "Each output may activate an external LED to sink the current sourced from VCC.", 7 SEG4 (out) "Each output may activate an external LED to sink the current sourced from VCC.", 8 VSS (power) "Ground", 9 SR (in) "The voltage drop (VSR) across pins SR and VSS is monitored and integrated over time to interpret charge and discharge activity.The SR input is connected to the sense resistor and the negative terminal of the battery. VSR < (See Datasheet)", 10 ~{DISP} "D\I\S\P\ high disables the LED display.D\I\S\P\ floating allows the LED display to be active during charge if the rate is greater than 100mA.D\I\S\P\ low activates the display for 4 seconds.", 11 SB (in) "This input monitors the cell pack voltage as a single-cell potential through a highimpedance resistor divider network. The cell pack voltage is reported in the SBD register function Voltage (0x09) and is compared to (See Datasheet)", 12 NC "No connect", 13 SCD (io) "This open-drain bidirectional pin is used to transfer address and data to and from the bq2092.", 14 SCC (io) "This open-drain bidirectional pin is used to clock the data transfer to and from the bq2092.", 15 REF (out) "REF provides a reference output for an optional micro-regulator.", 16 VOUT (power) "This output supplies power to the external EEPROM configuration memory."

## BQ2954PN
designator U?
Switch-Mode Li-Ion Charge Controller, 4.5 V, 0 to 70 degC, 16-pin PDIP (N), Pb-Free (RoHS); PartNumber: BQ2954PN; Manufacturer: Texas Instruments; Li-Ion: Y; SubFamily: Battery Charge Management; Vin(Min)(V): 4.5; DatasheetVersion: SLUS064; PackageVersion: revE, Dec-2002; PackageReference: N16; PackageDescription: 16-Pin Plastic Dual-In-Line Package, Row Spacing 7.62 mm, Pitch 2.54 mm; Supplier 1: Digi-Key; Supplier Part Number 1: 296-9387-5-ND; Supplier 2: Newark; Supplier Part Number 2: 74C7684; Supplier 3: Mouser; Supplier Part Number 3: 595-BQ2954PN; Eco-Plan: Pb-Free (RoHS); Lead Acid: N; Li-Polymer: Y; NiCd: N; NiMH: N; Over Voltage Protection: N; Mounting Technology: Through Hole; Code_JEDEC: MS-001*; ComponentLink1Description: Datasheet; ComponentLink1URL: http://www.ti.com/general/docs/lit/getliterature.tsp?genericPartNumber=BQ2954&fileType=pdf
footprint N16 (DIP, 16-Leads, Row Spacing 7.62mm, Pitch 2.54mm, Body 19.3x6.4mm)
pins: 1 TM (in) "Time-out programming input", 2 CHG (oc) "Charge active output", 3 BAT (in) "Battery voltage input", 4 VCOMP (in) "Voltage loop comp input", 5 ICOMP (in) "Current loop comp input", 6 ITERM (in) "Minimum current termination select input", 7 SNS (in) "Sense resistor input", 8 TS (in) "Temperature sense input", 9 TPWM (in) "Regulator timebase input", 10 BTST (out) "Battery test output", 11 LCOM (hiz) "Common LED output", 12 VSS (power) "System ground", 13 VCC (power) "5.0V+/-10% power", 14 MOD (out) "Modulation control output", 15 LED1/CSEL (io) "Charge status output 1/Charge sense select input", 16 LED2/DSEL (io) "Charge status output 2/Display select input"

## BQ2954PNE4
designator U?
Switch-Mode Li-Ion Charge Controller, 4.5 V, 0 to 70 degC, 16-pin PDIP (N), Pb-Free (RoHS); PartNumber: BQ2954PNE4; Manufacturer: Texas Instruments; Li-Ion: Y; SubFamily: Battery Charge Management; Vin(Min)(V): 4.5; DatasheetVersion: SLUS064; PackageVersion: revE, Dec-2002; PackageReference: N16; PackageDescription: 16-Pin Plastic Dual-In-Line Package, Row Spacing 7.62 mm, Pitch 2.54 mm; Supplier 1: Digi-Key; Supplier Part Number 1: BQ2954PNE4-ND; Supplier 2: Newark; Supplier Part Number 2: 28M4701; Supplier 3: Mouser; Supplier Part Number 3: 595-BQ2954PNE4; Eco-Plan: Pb-Free (RoHS); Lead Acid: N; Li-Polymer: Y; NiCd: N; NiMH: N; Over Voltage Protection: N; Mounting Technology: Through Hole; Code_JEDEC: MS-001*; ComponentLink1Description: Datasheet; ComponentLink1URL: http://www.ti.com/general/docs/lit/getliterature.tsp?genericPartNumber=BQ2954&fileType=pdf
footprint N16 (DIP, 16-Leads, Row Spacing 7.62mm, Pitch 2.54mm, Body 19.3x6.4mm)
pins: 1 TM (in) "Time-out programming input", 2 CHG (oc) "Charge active output", 3 BAT (in) "Battery voltage input", 4 VCOMP (in) "Voltage loop comp input", 5 ICOMP (in) "Current loop comp input", 6 ITERM (in) "Minimum current termination select input", 7 SNS (in) "Sense resistor input", 8 TS (in) "Temperature sense input", 9 TPWM (in) "Regulator timebase input", 10 BTST (out) "Battery test output", 11 LCOM (hiz) "Common LED output", 12 VSS (power) "System ground", 13 VCC (power) "5.0V+/-10% power", 14 MOD (out) "Modulation control output", 15 LED1/CSEL (io) "Charge status output 1/Charge sense select input", 16 LED2/DSEL (io) "Charge status output 2/Display select input"

## BQ2954SN
designator U?
Switch-Mode Li-Ion Charge Controller, 4.5 V, 0 to 70 degC, 16-pin SOIC (D), Green (RoHS & no Sb/Br); PartNumber: BQ2954SN; Manufacturer: Texas Instruments; Lead Acid: N; Li-Ion: Y; SubFamily: Battery Charge Management; Vin(Min)(V): 4.5; DatasheetVersion: SLUS064; PackageVersion: revM, Jun-2011; PackageReference: D16; PackageDescription: 16-Pin Plastic Small Outline Integrated Circuit, 9.9 x 3.9 mm, Pitch 1.27 mm Pitch; Supplier 1: Digi-Key; Supplier Part Number 1: 296-9388-5-ND; Supplier 2: Farnell; Supplier Part Number 2: 1470521; Supplier 3: Newark; Supplier Part Number 3: 74C7685; Supplier 4: Mouser; Supplier Part Number 4: 595-BQ2954SN; Eco-Plan: Green (RoHS & no Sb/Br); Li-Polymer: Y; NiCd: N; NiMH: N; Over Voltage Protection: N; Mounting Technology: Surface Mount; Code_JEDEC: MS-012AC; ComponentLink1Description: Datasheet; ComponentLink1URL: http://www.ti.com/general/docs/lit/getliterature.tsp?genericPartNumber=BQ2954&fileType=pdf
footprint D16_N (SOIC, 16-Leads, Body 9.9x3.9mm, Pitch 1.27mm, IPC Medium Density)
footprint D16_L (SOIC, 16-Leads, Body 9.9x3.9mm, Pitch 1.27mm, IPC High Density)
footprint D16_M (SOIC, 16-Leads, Body 9.9x3.9mm, Pitch 1.27mm, IPC Low Density)
pins: 1 TM (in) "Time-out programming input", 2 CHG (oc) "Charge active output", 3 BAT (in) "Battery voltage input", 4 VCOMP (in) "Voltage loop comp input", 5 ICOMP (in) "Current loop comp input", 6 ITERM (in) "Minimum current termination select input", 7 SNS (in) "Sense resistor input", 8 TS (in) "Temperature sense input", 9 TPWM (in) "Regulator timebase input", 10 BTST (out) "Battery test output", 11 LCOM (hiz) "Common LED output", 12 VSS (power) "System ground", 13 VCC (power) "5.0V+/-10% power", 14 MOD (out) "Modulation control output", 15 LED1/CSEL (io) "Charge status output 1/Charge sense select input", 16 LED2/DSEL (io) "Charge status output 2/Display select input"

## BQ2954SNG4
designator U?
Switch-Mode Li-Ion Charge Controller, 4.5 V, 0 to 70 degC, 16-pin SOIC (D), Green (RoHS & no Sb/Br); PartNumber: BQ2954SNG4; Manufacturer: Texas Instruments; Lead Acid: N; Li-Ion: Y; SubFamily: Battery Charge Management; Vin(Min)(V): 4.5; DatasheetVersion: SLUS064; PackageVersion: revM, Jun-2011; PackageReference: D16; PackageDescription: 16-Pin Plastic Small Outline Integrated Circuit, 9.9 x 3.9 mm, Pitch 1.27 mm Pitch; Supplier 1: Digi-Key; Supplier Part Number 1: BQ2954SNG4-ND; Supplier 2: Newark; Supplier Part Number 2: 85K0189; Supplier 3: Mouser; Supplier Part Number 3: 595-BQ2954SNG4; Eco-Plan: Green (RoHS & no Sb/Br); Li-Polymer: Y; NiCd: N; NiMH: N; Over Voltage Protection: N; Mounting Technology: Surface Mount; Code_JEDEC: MS-012AC; ComponentLink1Description: Datasheet; ComponentLink1URL: http://www.ti.com/general/docs/lit/getliterature.tsp?genericPartNumber=BQ2954&fileType=pdf
footprint D16_N (SOIC, 16-Leads, Body 9.9x3.9mm, Pitch 1.27mm, IPC Medium Density)
footprint D16_L (SOIC, 16-Leads, Body 9.9x3.9mm, Pitch 1.27mm, IPC High Density)
footprint D16_M (SOIC, 16-Leads, Body 9.9x3.9mm, Pitch 1.27mm, IPC Low Density)
pins: 1 TM (in) "Time-out programming input", 2 CHG (oc) "Charge active output", 3 BAT (in) "Battery voltage input", 4 VCOMP (in) "Voltage loop comp input", 5 ICOMP (in) "Current loop comp input", 6 ITERM (in) "Minimum current termination select input", 7 SNS (in) "Sense resistor input", 8 TS (in) "Temperature sense input", 9 TPWM (in) "Regulator timebase input", 10 BTST (out) "Battery test output", 11 LCOM (hiz) "Common LED output", 12 VSS (power) "System ground", 13 VCC (power) "5.0V+/-10% power", 14 MOD (out) "Modulation control output", 15 LED1/CSEL (io) "Charge status output 1/Charge sense select input", 16 LED2/DSEL (io) "Charge status output 2/Display select input"

## BQ2954SNTR
designator U?
Switch-Mode Li-Ion Charge Controller, 4.5 V, 0 to 70 degC, 16-pin SOIC (D), Green (RoHS & no Sb/Br); PartNumber: BQ2954SNTR; Manufacturer: Texas Instruments; Lead Acid: N; Li-Ion: Y; SubFamily: Battery Charge Management; Vin(Min)(V): 4.5; DatasheetVersion: SLUS064; PackageVersion: revM, Jun-2011; PackageReference: D16; PackageDescription: 16-Pin Plastic Small Outline Integrated Circuit, 9.9 x 3.9 mm, Pitch 1.27 mm Pitch; Supplier 1: Digi-Key; Supplier Part Number 1: BQ2954SNTR-ND; Supplier 2: Newark; Supplier Part Number 2: 74C7686; Supplier 3: Mouser; Supplier Part Number 3: 595-BQ2954SNTR; Eco-Plan: Green (RoHS & no Sb/Br); Li-Polymer: Y; NiCd: N; NiMH: N; Over Voltage Protection: N; Mounting Technology: Surface Mount; Code_JEDEC: MS-012AC; ComponentLink1Description: Datasheet; ComponentLink1URL: http://www.ti.com/general/docs/lit/getliterature.tsp?genericPartNumber=BQ2954&fileType=pdf
footprint D16_N (SOIC, 16-Leads, Body 9.9x3.9mm, Pitch 1.27mm, IPC Medium Density)
footprint D16_L (SOIC, 16-Leads, Body 9.9x3.9mm, Pitch 1.27mm, IPC High Density)
footprint D16_M (SOIC, 16-Leads, Body 9.9x3.9mm, Pitch 1.27mm, IPC Low Density)
pins: 1 TM (in) "Time-out programming input", 2 CHG (oc) "Charge active output", 3 BAT (in) "Battery voltage input", 4 VCOMP (in) "Voltage loop comp input", 5 ICOMP (in) "Current loop comp input", 6 ITERM (in) "Minimum current termination select input", 7 SNS (in) "Sense resistor input", 8 TS (in) "Temperature sense input", 9 TPWM (in) "Regulator timebase input", 10 BTST (out) "Battery test output", 11 LCOM (hiz) "Common LED output", 12 VSS (power) "System ground", 13 VCC (power) "5.0V+/-10% power", 14 MOD (out) "Modulation control output", 15 LED1/CSEL (io) "Charge status output 1/Charge sense select input", 16 LED2/DSEL (io) "Charge status output 2/Display select input"